# EAGLE library part M-1X10- (library con-headers-jp)
MALE HEADER
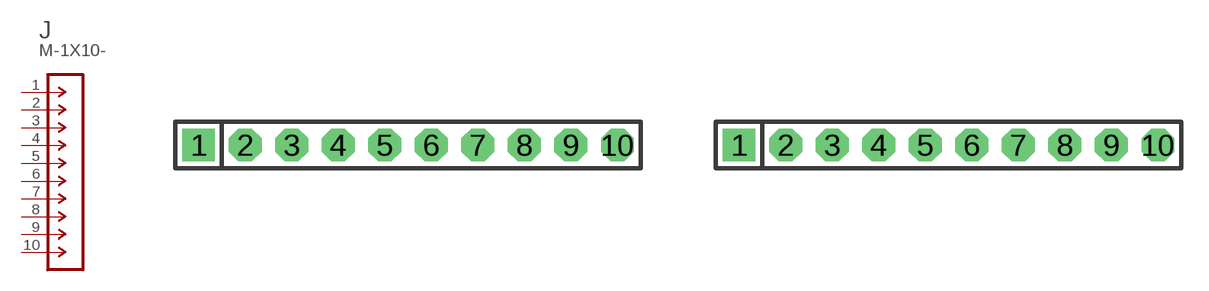
[diagram p52: symbol with the pads of SIP-100-10-40; footprints SIP-100-10-40, SIP-100-10-32]

Designator prefix J

## M-1X10-SIP-100-40  [SIP-100-10-40]
1  1  pas
2  2  pas
3  3  pas
4  4  pas
5  5  pas
6  6  pas
7  7  pas
8  8  pas
9  9  pas
10  10  pas

## M-1X10-SIP-100-32  [SIP-100-10-32]
Pads as for SIP-100-10-40

## M-1X10-SIP-100-32Y  [SIP-100-10-32Y]
Pads as for SIP-100-10-40

## M-1X10-SIP-100-40Y  [SIP-100-10-40Y]
Pads as for SIP-100-10-40

## M-1X10-2MM-28, M-1X10--AU2MM-28 (DESC: CONN HEADER 2MM VERT AU 10POS; MANF: Harwin; MFPN: M22-2511005; PARTNO: NEW)  [SIP-2MM-10-28]
Pads as for SIP-100-10-40

## Footprint SIP-100-10-40 (pad centres in mm)
SIP Header - 0.1", 40 mil drill
drill 1.016 pad 1.778 square: 1 -11.43,0
drill 1.016 pad 1.778 octagon: 2 -8.89,0; 3 -6.35,0; 4 -3.81,0; 5 -1.27,0; 6 1.27,0; 7 3.81,0; 8 6.35,0; 9 8.89,0; 10 11.43,0

## Footprint SIP-100-10-32 (pad centres in mm)
SIP Header - 0.1", 32 mil drill
drill 0.813 pad 1.778 square: 1 -11.43,0
drill 0.813 pad 1.778 octagon: 2 -8.89,0; 3 -6.35,0; 4 -3.81,0; 5 -1.27,0; 6 1.27,0; 7 3.81,0; 8 6.35,0; 9 8.89,0; 10 11.43,0

## Footprint SIP-100-10-32Y (pad centres in mm)
SIP Header - 0.1", 32 mil drill
drill 0.813 long: 1 -11.43,0; 2 -8.89,0; 3 -6.35,0; 4 -3.81,0; 5 -1.27,0; 6 1.27,0; 7 3.81,0; 8 6.35,0; 9 8.89,0; 10 11.43,0

## Footprint SIP-100-10-40Y (pad centres in mm)
SIP Header - 0.1", 40 mil drill
drill 1.016 long: 1 -11.43,0; 2 -8.89,0; 3 -6.35,0; 4 -3.81,0; 5 -1.27,0; 6 1.27,0; 7 3.81,0; 8 6.35,0; 9 8.89,0; 10 11.43,0

## Footprint SIP-2MM-10-28 (pad centres in mm)
SIP Header - 2mm, 28 mil drill
drill 0.711 pad 1.422 square: 1 -9,0
drill 0.711 pad 1.422: 2 -7,0; 3 -5,0; 4 -3,0; 5 -1,0; 6 1,0; 7 3,0; 8 5,0; 9 7,0; 10 9,0